# EAGLE library part ATMEGA2560 (library Atmega2560-DuinoCore)
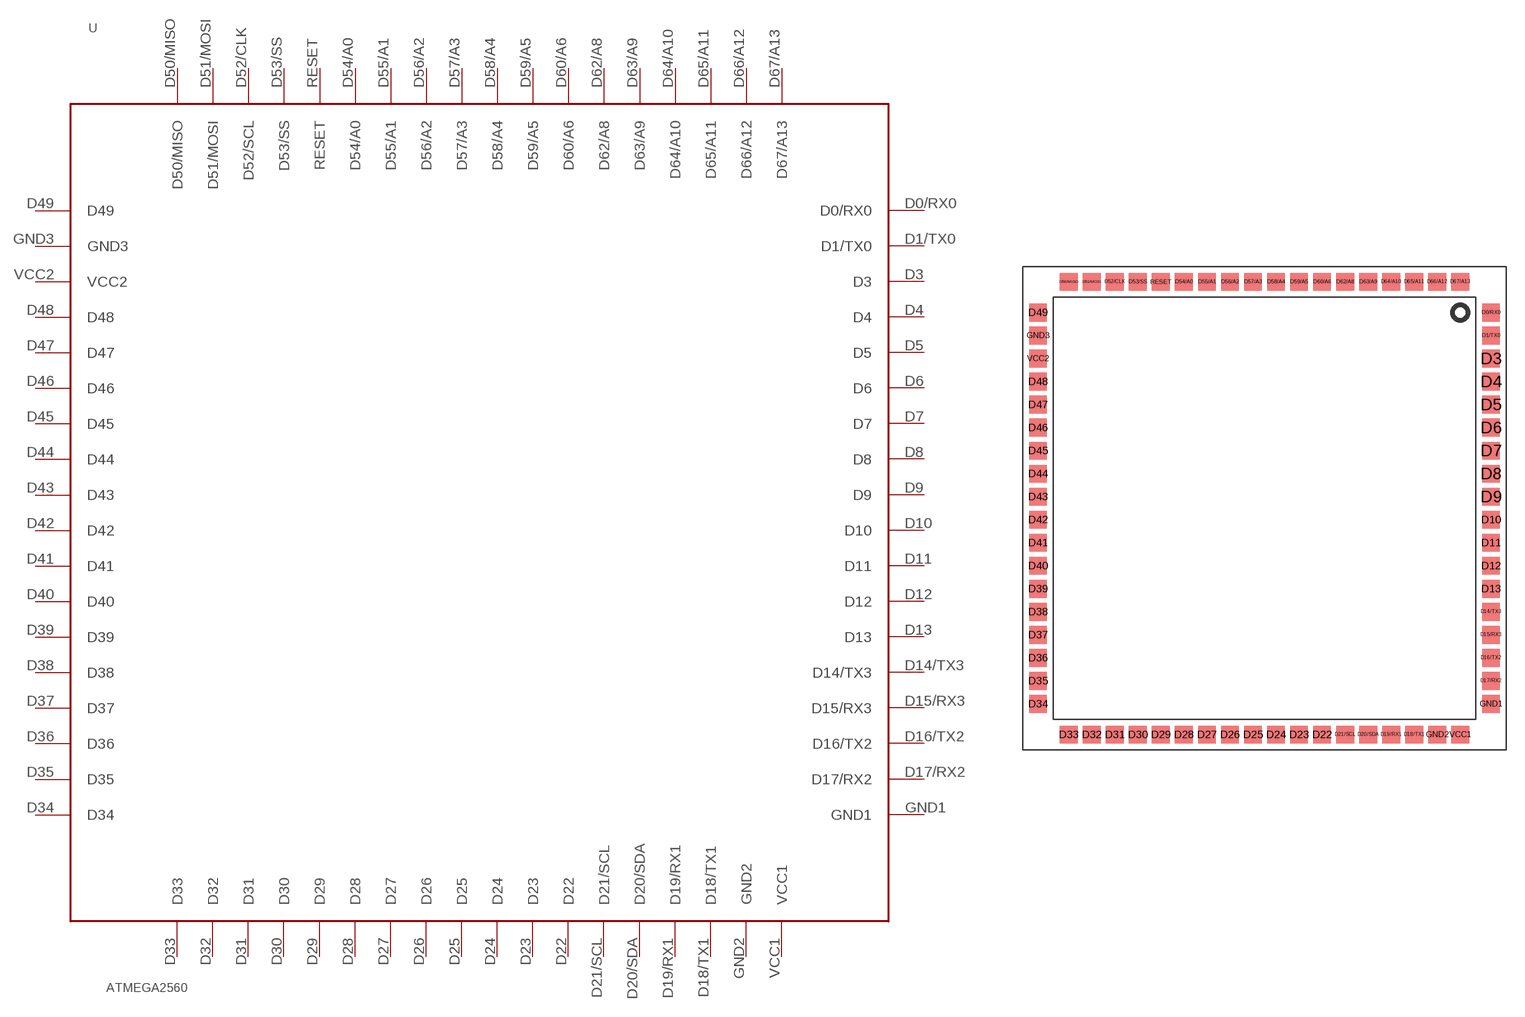
[diagram p0: symbol with the pads of SMM; footprint SMM]

Designator prefix -

## ATMEGA2560  [SMM]
D0/RX0  D0/RX0
D1/TX0  D1/TX0
D3  D3
D4  D4
D5  D5
D6  D6
D7  D7
D8  D8
D9  D9
D10  D10
D11  D11
D12  D12
D13  D13
D14/TX3  D14/TX3
D15/RX3  D15/RX3
D16/TX2  D16/TX2
D17/RX2  D17/RX2
D18/TX1  D18/TX1
D19/RX1  D19/RX1
D20/SDA  D20/SDA
D21/SCL  D21/SCL
D22  D22
D23  D23
D24  D24
D25  D25
D26  D26
D27  D27
D28  D28
D29  D29
D30  D30
D31  D31
D32  D32
D33  D33
D34  D34
D35  D35
D36  D36
D37  D37
D38  D38
D39  D39
D40  D40
D41  D41
D42  D42
D43  D43
D44  D44
D45  D45
D46  D46
D47  D47
D48  D48
D49  D49
D50/MISO  D50/MISO
D51/MOSI  D51/MOSI
D52/CLK  D52/SCL
D53/SS  D53/SS
D54/A0  D54/A0
D55/A1  D55/A1
D56/A2  D56/A2
D57/A3  D57/A3
D58/A4  D58/A4
D59/A5  D59/A5
D60/A6  D60/A6
D62/A8  D62/A8
D63/A9  D63/A9
D64/A10  D64/A10
D65/A11  D65/A11
D66/A12  D66/A12
D67/A13  D67/A13
GND1  GND1
GND2  GND2
GND3  GND3
RESET  RESET
VCC1  VCC1
VCC2  VCC2

## Footprint SMM (pad centres in mm)
smd 1.473 x 1.473: D0/RX0 25.4,2.54; D1/TX0 25.4,0.635; D3 25.4,-1.27; D4 25.4,-3.175; D5 25.4,-5.08; D6 25.4,-6.985; D7 25.4,-8.89; D8 25.4,-10.795; D9 25.4,-12.7; D10 25.4,-14.605; D11 25.4,-16.51; D12 25.4,-18.415; D13 25.4,-20.32; D14/TX3 25.4,-22.225; D15/RX3 25.4,-24.13; D16/TX2 25.4,-26.035; D17/RX2 25.4,-27.94; D18/TX1 19.05,-32.385; D19/RX1 17.145,-32.385; D20/SDA 15.24,-32.385; D21/SCL 13.335,-32.385; D22 11.43,-32.385; D23 9.525,-32.385; D24 7.62,-32.385; D25 5.715,-32.385; D26 3.81,-32.385; D27 1.905,-32.385; D28 0,-32.385; D29 -1.905,-32.385; D30 -3.81,-32.385; D31 -5.715,-32.385; D32 -7.62,-32.385; D33 -9.525,-32.385; D34 -12.065,-29.845; D35 -12.065,-27.94; D36 -12.065,-26.035; D37 -12.065,-24.13; D38 -12.065,-22.225; D39 -12.065,-20.32; D40 -12.065,-18.415; D41 -12.065,-16.51; D42 -12.065,-14.605; D43 -12.065,-12.7; D44 -12.065,-10.795; D45 -12.065,-8.89; D46 -12.065,-6.985; D47 -12.065,-5.08; D48 -12.065,-3.175; D49 -12.065,2.54; D50/MISO -9.525,5.08; D51/MOSI -7.62,5.08; D52/CLK -5.715,5.08; D53/SS -3.81,5.08; D54/A0 0,5.08; D55/A1 1.905,5.08; D56/A2 3.81,5.08; D57/A3 5.715,5.08; D58/A4 7.62,5.08; D59/A5 9.525,5.08; D60/A6 11.43,5.08; D62/A8 13.335,5.08; D63/A9 15.24,5.08; D64/A10 17.145,5.08; D65/A11 19.05,5.08; D66/A12 20.955,5.08; D67/A13 22.86,5.08; GND1 25.4,-29.845; GND2 20.955,-32.385; GND3 -12.065,0.635; RESET -1.905,5.08; VCC1 22.86,-32.385; VCC2 -12.065,-1.27